# EAGLE library part EKKLM3S811 (library CEDTv77)
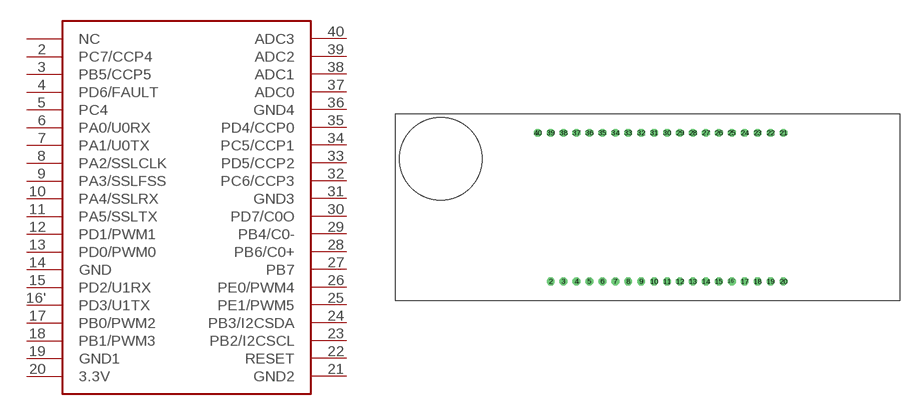
[diagram p36: symbol with the pads of EKKLM3S811; footprint EKKLM3S811]

Designator prefix -

## EKKLM3S811  [EKKLM3S811]
2  PC7/CCP4
3  PB5/CCP5
4  PD6/FAULT
5  PC4
6  PA0/U0RX
7  PA1/U0TX
8  PA2/SSLCLK
9  PA3/SSLFSS
10  PA4/SSLRX
11  PA5/SSLTX
12  PD1/PWM1
13  PD0/PWM0
14  GND
15  PD2/U1RX
16'  PD3/U1TX
17  PB0/PWM2
18  PB1/PWM3
19  GND1
20  3.3V
21  GND2
22  RESET
23  PB2/I2CSCL
24  PB3/I2CSDA
25  PE1/PWM5
26  PE0/PWM4
27  PB7
28  PB6/C0+
29  PB4/C0-
30  PD7/C0O
31  GND3
32  PC6/CCP3
33  PD5/CCP2
34  PC5/CCP1
35  PD4/CCP0
36  GND4
37  ADC0
38  ADC1
39  ADC2
40  ADC3

## Footprint EKKLM3S811 (pad centres in mm)
drill 1.016 octagon: 2 30.48,3.81; 3 33.02,3.81; 4 35.56,3.81; 5 38.1,3.81; 6 40.64,3.81; 7 43.18,3.81; 8 45.72,3.81; 9 48.26,3.81; 10 50.8,3.81; 11 53.34,3.81; 12 55.88,3.81; 13 58.42,3.81; 14 60.96,3.81; 15 63.5,3.81; 16' 66.04,3.81; 17 68.58,3.81; 18 71.12,3.81; 19 73.66,3.81; 20 76.2,3.81; 21 76.2,33.02; 22 73.66,33.02; 23 71.12,33.02; 24 68.58,33.02; 25 66.04,33.02; 26 63.5,33.02; 27 60.96,33.02; 28 58.42,33.02; 29 55.88,33.02; 30 53.34,33.02; 31 50.8,33.02; 32 48.26,33.02; 33 45.72,33.02; 34 43.18,33.02; 35 40.64,33.02; 36 38.1,33.02; 37 35.56,33.02; 38 33.02,33.02; 39 30.48,33.02; 40 27.94,33.02